# EAGLE library part MAX1685 (library gumsense)
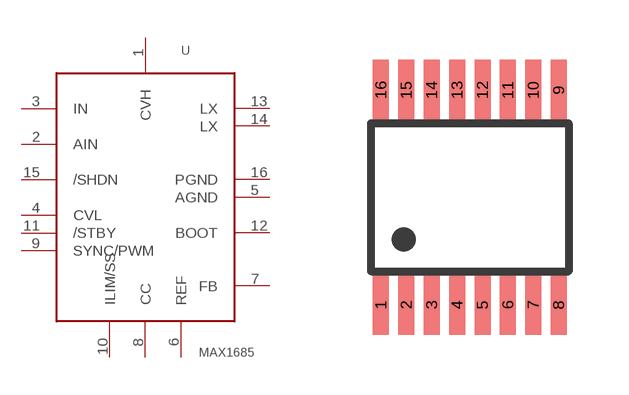
[diagram p3: symbol with the pads of QSOP16; footprint QSOP16]

Designator prefix -

## MAX1685  [QSOP16]
1  CVH
2  AIN
3  IN
4  CVL
5  AGND
6  REF
7  FB
8  CC
9  SYNC/PWM
10  ILIM/SS
11  /STBY
12  BOOT
13  LX
14  LX
15  /SHDN
16  PGND

## Footprint QSOP16 (pad centres in mm)
Small Outline Package
smd 0.4 x 1.5: 1 -2.223,-2.69; 2 -1.587,-2.69; 3 -0.953,-2.69; 4 -0.318,-2.69; 5 0.318,-2.69; 6 0.953,-2.69; 7 1.587,-2.69; 8 2.223,-2.69; 9 2.223,2.69; 10 1.587,2.69; 11 0.953,2.69; 12 0.318,2.69; 13 -0.318,2.69; 14 -0.953,2.69; 15 -1.587,2.69; 16 -2.223,2.69